# Altium footprint library PCB-LQFP-WCH-LQFP44.PcbLib: 1 footprints
Each footprint in its own frame and in the unit in brackets; x right, y up, seen from the top. Pads: shape width x height; smd on the part's side, far side on the other; paste and mask are expansions set on the pad; w line width, h text height; cw(c..) or ccw(c..) is an arc to the next point about the centre after c.
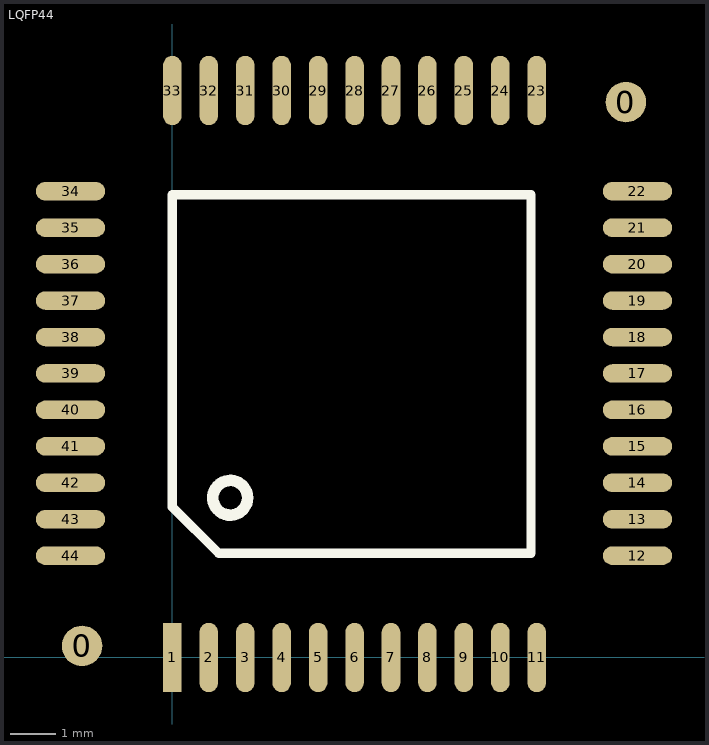
[diagram p0: the footprint, top view; thin cyan lines are the x and y axes]

## LQFP44 [mil]
pads (46):
  round 35 smd: 0(-78,10) 0(392,480)
  rect 16x60 smd: 1(0,0)
  oval 16x60 smd: 2(31.5,0) 3(63,0) 4(94.49,0) 5(126,0) 6(157.48,0) 7(188.98,0) 8(220.47,0) 9(251.97,0) 10(283.46,0) 11(314.96,0) 23(314.96,490) 24(283.46,490) 25(251.97,490) 26(220.47,490) 27(188.98,490) 28(157.48,490) 29(126,490) 30(94.49,490) 31(63,490) 32(31.5,490) 33(0,490)
  oval 60x16 smd: 12(402,88) 13(402,119.49) 14(402,151) 15(402,182.48) 16(402,214) 17(402,245.47) 18(402,276.97) 19(402,308.46) 20(402,339.96) 21(402,371.46) 22(402,402.95) 34(-88,402.95) 35(-88,371.46) 36(-88,339.96) 37(-88,308.46) 38(-88,276.97) 39(-88,245.47) 40(-88,214) 41(-88,182.48) 42(-88,151) 43(-88,119.49) 44(-88,88)
Top Overlay:
  circle w10: c50,138 r15
  lines w8: 0,130 0,400 310,400 310,90 40,90 0,130